# Altium schematic symbol library Transformer.SchLib: 187 symbols
Pins are listed as number, name and electrical type; pins without a type are passive.

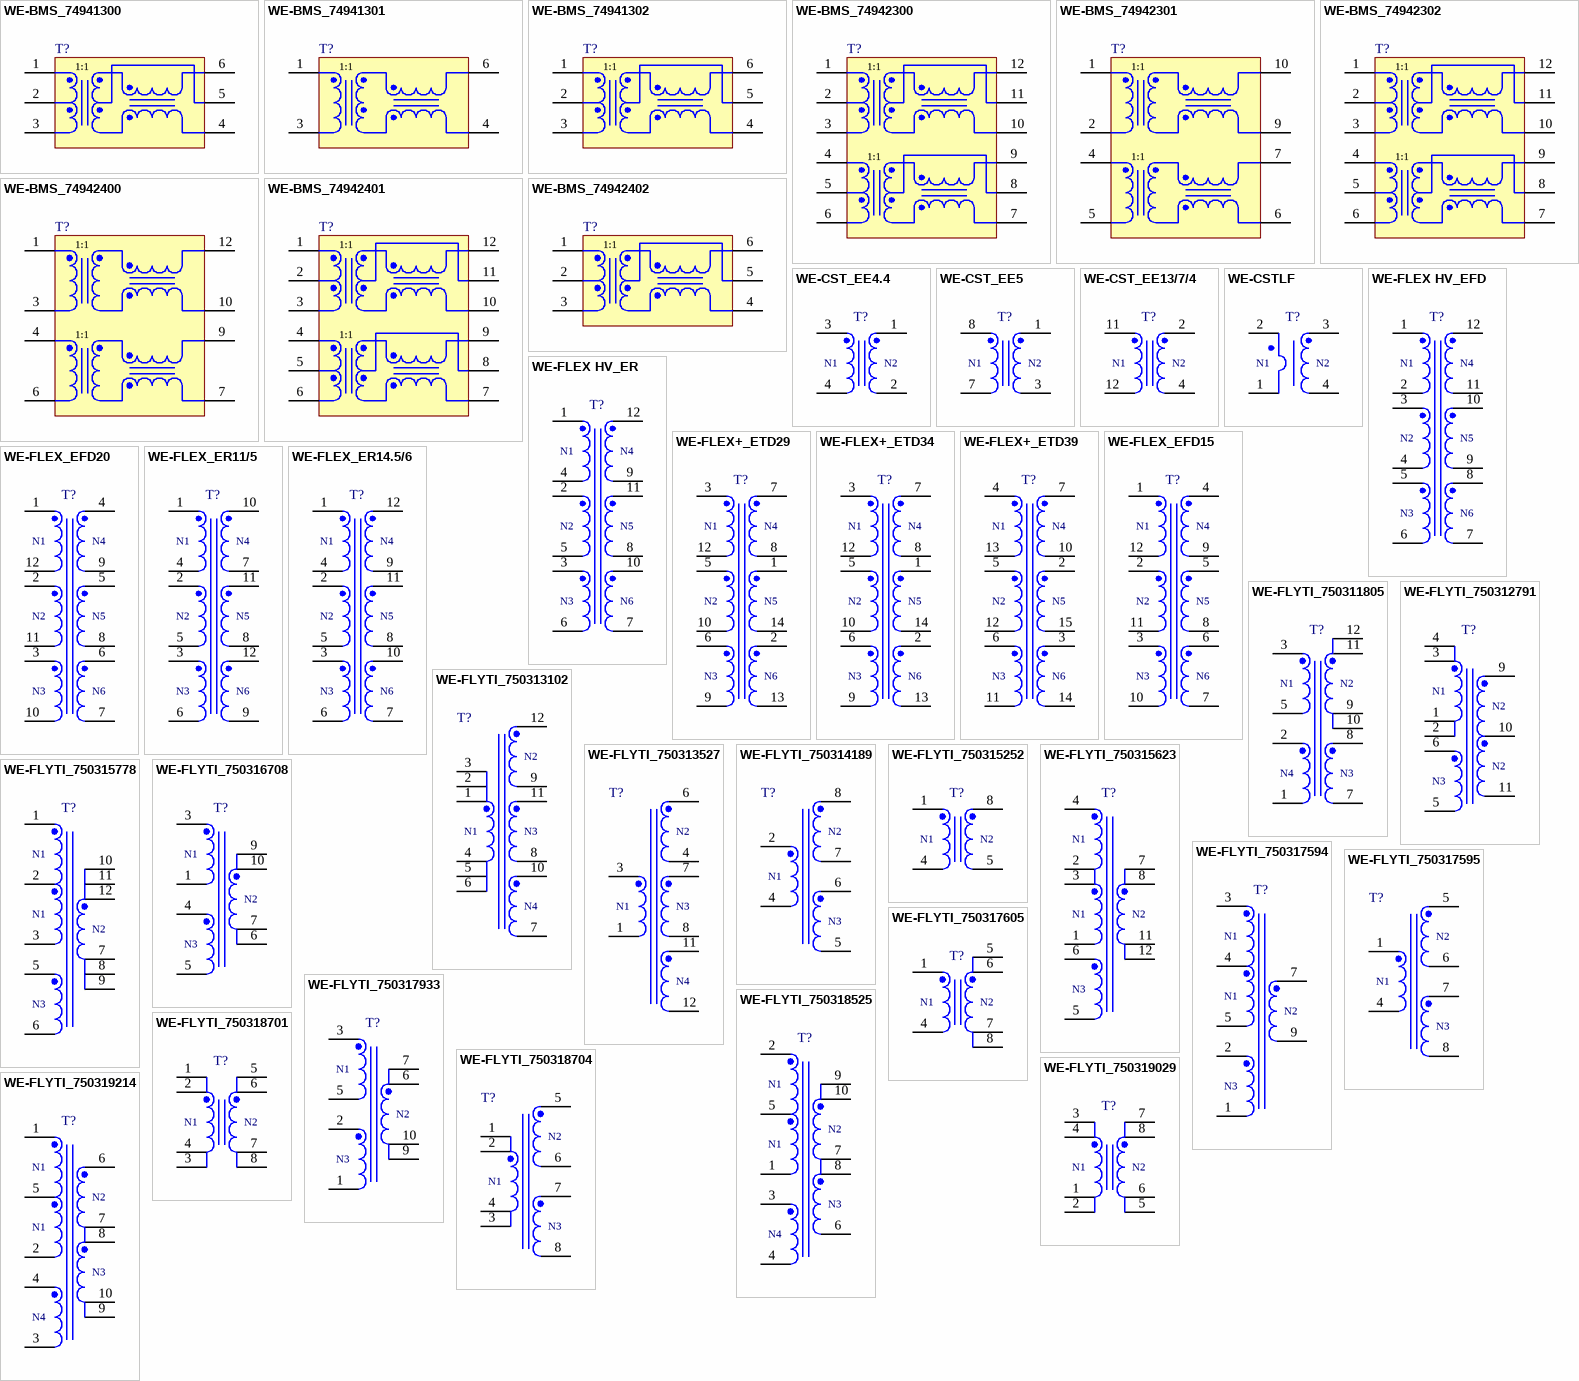
[diagram p0: symbols WE-BMS_74941300 to WE-FLYTI_750319214]

## WE-BMS_74941300
designator T?
pins: 1, 2, 3, 4, 5, 6
text: 1:1

## WE-BMS_74941301
designator T?
pins: 1, 3, 4, 6
text: 1:1

## WE-BMS_74941302
designator T?
pins: 1, 2, 3, 4, 5, 6
text: 1:1

## WE-BMS_74942300
designator T?
pins: 1, 2, 3, 4, 5, 6, 7, 8, 9, 10, 11, 12
text: 1:1

## WE-BMS_74942301
designator T?
pins: 1, 2, 4, 5, 6, 7, 9, 10
text: 1:1

## WE-BMS_74942302
designator T?
pins: 1, 2, 3, 4, 5, 6, 7, 8, 9, 10, 11, 12
text: 1:1

## WE-BMS_74942400
designator T?
pins: 1, 3, 4, 6, 7, 9, 10, 12
text: 1:1

## WE-BMS_74942401
designator T?
pins: 1 RD+, 2 CRD, 3 RD-, 4 TD+, 5 CTD, 6 TD-, 7 TX, 8 CTX, 9 TX+, 10 RX, 11 CRX, 12 RX+
text: 1:1

## WE-BMS_74942402
designator T?
pins: 1, 2, 3, 4, 5, 6
text: 1:1

## WE-CST_EE4.4
designator T?
pins: 1, 2, 3, 4
text: N1; N2

## WE-CST_EE5
designator T?
pins: 1, 3, 7, 8
text: N1; N2

## WE-CST_EE13/7/4
designator T?
pins: 2, 4, 11, 12
text: N1; N2

## WE-CSTLF
designator T?
pins: 1, 2, 3, 4
text: N1; N2

## WE-FLEX HV_EFD
designator T?
pins: 1, 2, 3, 4, 5, 6, 7, 8, 9, 10, 11, 12
text: N1; N4; N2; N5; N3; N6

## WE-FLEX HV_ER
designator T?
pins: 1, 2, 3, 4, 5, 6, 7, 8, 9, 10, 11, 12
text: N1; N4; N2; N5; N3; N6

## WE-FLEX+_ETD29
designator T?
pins: 1, 2, 3, 5, 6, 7, 8, 9, 10, 12, 13, 14
text: N1; N4; N2; N5; N3; N6

## WE-FLEX+_ETD34
designator T?
pins: 1, 2, 3, 5, 6, 7, 8, 9, 10, 12, 13, 14
text: N1; N4; N2; N5; N3; N6

## WE-FLEX+_ETD39
designator T?
pins: 2, 3, 4, 5, 6, 7, 10, 11, 12, 13, 14, 15
text: N1; N4; N2; N5; N3; N6

## WE-FLEX_EFD15
designator T?
pins: 1, 2, 3, 4, 5, 6, 7, 8, 9, 10, 11, 12
text: N1; N4; N2; N5; N3; N6

## WE-FLEX_EFD20
designator T?
pins: 1, 2, 3, 4, 5, 6, 7, 8, 9, 10, 11, 12
text: N1; N4; N2; N5; N3; N6

## WE-FLEX_ER11/5
designator T?
pins: 1, 2, 3, 4, 5, 6, 7, 8, 9, 10, 11, 12
text: N1; N4; N2; N5; N3; N6

## WE-FLEX_ER14.5/6
designator T?
pins: 1, 2, 3, 4, 5, 6, 7, 8, 9, 10, 11, 12
text: N1; N4; N2; N5; N3; N6

## WE-FLYTI_750311805
designator T?
pins: 1, 2, 3, 5, 7, 8, 9, 10, 11, 12
text: N1; N2; N4; N3

## WE-FLYTI_750312791
designator T?
pins: 1, 2, 3, 4, 5, 6, 9, 10, 11
text: N1; N2; N3

## WE-FLYTI_750313102
designator T?
pins: 1, 2, 3, 4, 5, 6, 7, 8, 9, 10, 11, 12
text: N2; N1; N3; N4

## WE-FLYTI_750313527
designator T?
pins: 1, 3, 4, 6, 7, 8, 11, 12
text: N2; N1; N3; N4

## WE-FLYTI_750314189
designator T?
pins: 2, 4, 5, 6, 7, 8
text: N2; N1; N3

## WE-FLYTI_750315252
designator T?
pins: 1, 4, 5, 8
text: N1; N2

## WE-FLYTI_750315623
designator T?
pins: 1, 2, 3, 4, 5, 6, 7, 8, 11, 12
text: N1; N2; N3

## WE-FLYTI_750315778
designator T?
pins: 1, 2, 3, 5, 6, 7, 8, 9, 10, 11, 12
text: N1; N2; N3

## WE-FLYTI_750316708
designator T?
pins: 1, 3, 4, 5, 6, 7, 9, 10
text: N1; N2; N3

## WE-FLYTI_750317594
designator T?
pins: 1, 2, 3, 4, 5, 7, 9
text: N1; N2; N3

## WE-FLYTI_750317595
designator T?
pins: 1, 4, 5, 6, 7, 8
text: N2; N1; N3

## WE-FLYTI_750317605
designator T?
pins: 1, 4, 5, 6, 7, 8
text: N1; N2

## WE-FLYTI_750317933
designator T?
pins: 1, 2, 3, 5, 6, 7, 9, 10
text: N1; N2; N3

## WE-FLYTI_750318525
designator T?
pins: 1, 2, 3, 4, 5, 6, 7, 8, 9, 10
text: N1; N2; N3; N4

## WE-FLYTI_750318701
designator T?
pins: 1, 2, 3, 4, 5, 6, 7, 8
text: N1; N2

## WE-FLYTI_750318704
designator T?
pins: 1, 2, 3, 4, 5, 6, 7, 8
text: N2; N1; N3

## WE-FLYTI_750319029
designator T?
pins: 1, 2, 3, 4, 5, 6, 7, 8
text: N1; N2

## WE-FLYTI_750319214
designator T?
pins: 1, 2, 3, 4, 5, 6, 7, 8, 9, 10
text: N1; N2; N3; N4

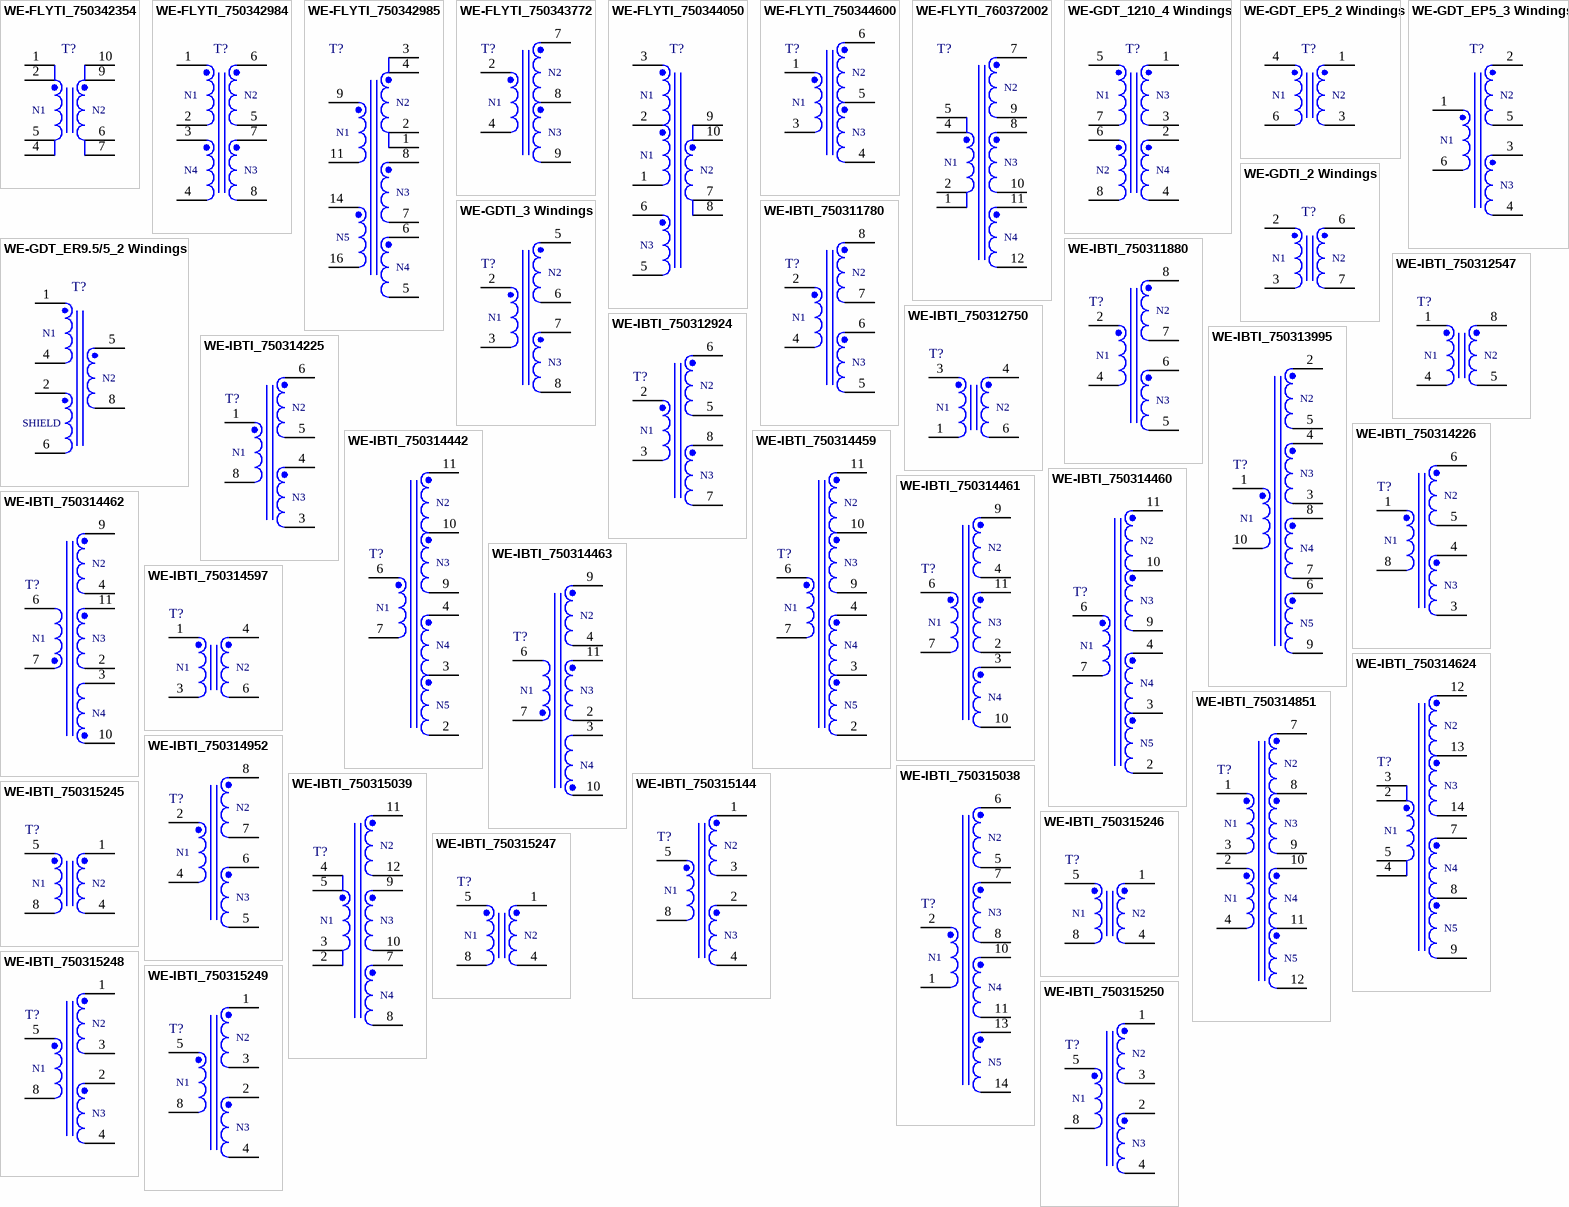
[diagram p1: symbols WE-FLYTI_750342354 to WE-IBTI_750315250]

## WE-FLYTI_750342354
designator T?
pins: 1, 2, 4, 5, 6, 7, 9, 10
text: N1; N2

## WE-FLYTI_750342984
designator T?
pins: 1, 2, 3, 4, 5, 6, 7, 8
text: N1; N2; N4; N3

## WE-FLYTI_750342985
designator T?
pins: 1, 2, 3, 4, 5, 6, 7, 8, 9, 11, 14, 16
text: N2; N1; N3; N5; N4

## WE-FLYTI_750343772
designator T?
pins: 2, 4, 7, 8, 9
text: N2; N1; N3

## WE-FLYTI_750344050
designator T?
pins: 1, 2, 3, 5, 6, 7, 8, 9, 10
text: N1; N2; N3

## WE-FLYTI_750344600
designator T?
pins: 1, 3, 4, 5, 6
text: N2; N1; N3

## WE-FLYTI_760372002
designator T?
pins: 1, 2, 4, 5, 7, 8, 9, 10, 11, 12
text: N2; N1; N3; N4

## WE-GDT_1210_4 Windings
designator T?
pins: 1, 2, 3, 4, 5, 6, 7, 8
text: N1; N3; N2; N4

## WE-GDT_EP5_2 Windings
designator T?
pins: 1, 3, 4, 6
text: N1; N2

## WE-GDT_EP5_3 Windings
designator T?
pins: 1, 2, 3, 4, 5, 6
text: N2; N1; N3

## WE-GDT_ER9.5/5_2 Windings
designator T?
pins: 1, 2, 4, 5, 6, 8
text: N1; N2; SHIELD

## WE-GDTI_2 Windings
designator T?
pins: 2, 3, 6, 7
text: N1; N2

## WE-GDTI_3 Windings
designator T?
pins: 2, 3, 5, 6, 7, 8
text: N2; N1; N3

## WE-IBTI_750311780
designator T?
pins: 2, 4, 5, 6, 7, 8
text: N2; N1; N3

## WE-IBTI_750311880
designator T?
pins: 2, 4, 5, 6, 7, 8
text: N2; N1; N3

## WE-IBTI_750312547
designator T?
pins: 1, 4, 5, 8
text: N1; N2

## WE-IBTI_750312750
designator T?
pins: 1, 3, 4, 6
text: N1; N2

## WE-IBTI_750312924
designator T?
pins: 2, 3, 5, 6, 7, 8
text: N2; N1; N3

## WE-IBTI_750313995
designator T?
pins: 1, 2, 3, 4, 5, 6, 7, 8, 9, 10
text: N2; N3; N1; N4; N5

## WE-IBTI_750314225
designator T?
pins: 1, 3, 4, 5, 6, 8
text: N2; N1; N3

## WE-IBTI_750314226
designator T?
pins: 1, 3, 4, 5, 6, 8
text: N2; N1; N3

## WE-IBTI_750314442
designator T?
pins: 2, 3, 4, 6, 7, 9, 10, 11
text: N2; N3; N1; N4; N5

## WE-IBTI_750314459
designator T?
pins: 2, 3, 4, 6, 7, 9, 10, 11
text: N2; N3; N1; N4; N5

## WE-IBTI_750314460
designator T?
pins: 2, 3, 4, 6, 7, 9, 10, 11
text: N2; N3; N1; N4; N5

## WE-IBTI_750314461
designator T?
pins: 2, 3, 4, 6, 7, 9, 10, 11
text: N2; N1; N3; N4

## WE-IBTI_750314462
designator T?
pins: 2, 3, 4, 6, 7, 9, 10, 11
text: N2; N1; N3; N4

## WE-IBTI_750314463
designator T?
pins: 2, 3, 4, 6, 7, 9, 10, 11
text: N2; N1; N3; N4

## WE-IBTI_750314597
designator T?
pins: 1, 3, 4, 6
text: N1; N2

## WE-IBTI_750314624
designator T?
pins: 2, 3, 4, 5, 7, 8, 9, 12, 13, 14
text: N2; N3; N1; N4; N5

## WE-IBTI_750314851
designator T?
pins: 1, 2, 3, 4, 7, 8, 9, 10, 11, 12
text: N2; N1; N3; N4; N5

## WE-IBTI_750314952
designator T?
pins: 2, 4, 5, 6, 7, 8
text: N2; N1; N3

## WE-IBTI_750315038
designator T?
pins: 1, 2, 5, 6, 7, 8, 10, 11, 13, 14
text: N2; N3; N1; N4; N5

## WE-IBTI_750315039
designator T?
pins: 2, 3, 4, 5, 7, 8, 9, 10, 11, 12
text: N2; N1; N3; N4

## WE-IBTI_750315144
designator T?
pins: 1, 2, 3, 4, 5, 8
text: N2; N1; N3

## WE-IBTI_750315245
designator T?
pins: 1, 4, 5, 8
text: N1; N2

## WE-IBTI_750315246
designator T?
pins: 1, 4, 5, 8
text: N1; N2

## WE-IBTI_750315247
designator T?
pins: 1, 4, 5, 8
text: N1; N2

## WE-IBTI_750315248
designator T?
pins: 1, 2, 3, 4, 5, 8
text: N2; N1; N3

## WE-IBTI_750315249
designator T?
pins: 1, 2, 3, 4, 5, 8
text: N2; N1; N3

## WE-IBTI_750315250
designator T?
pins: 1, 2, 3, 4, 5, 8
text: N2; N1; N3

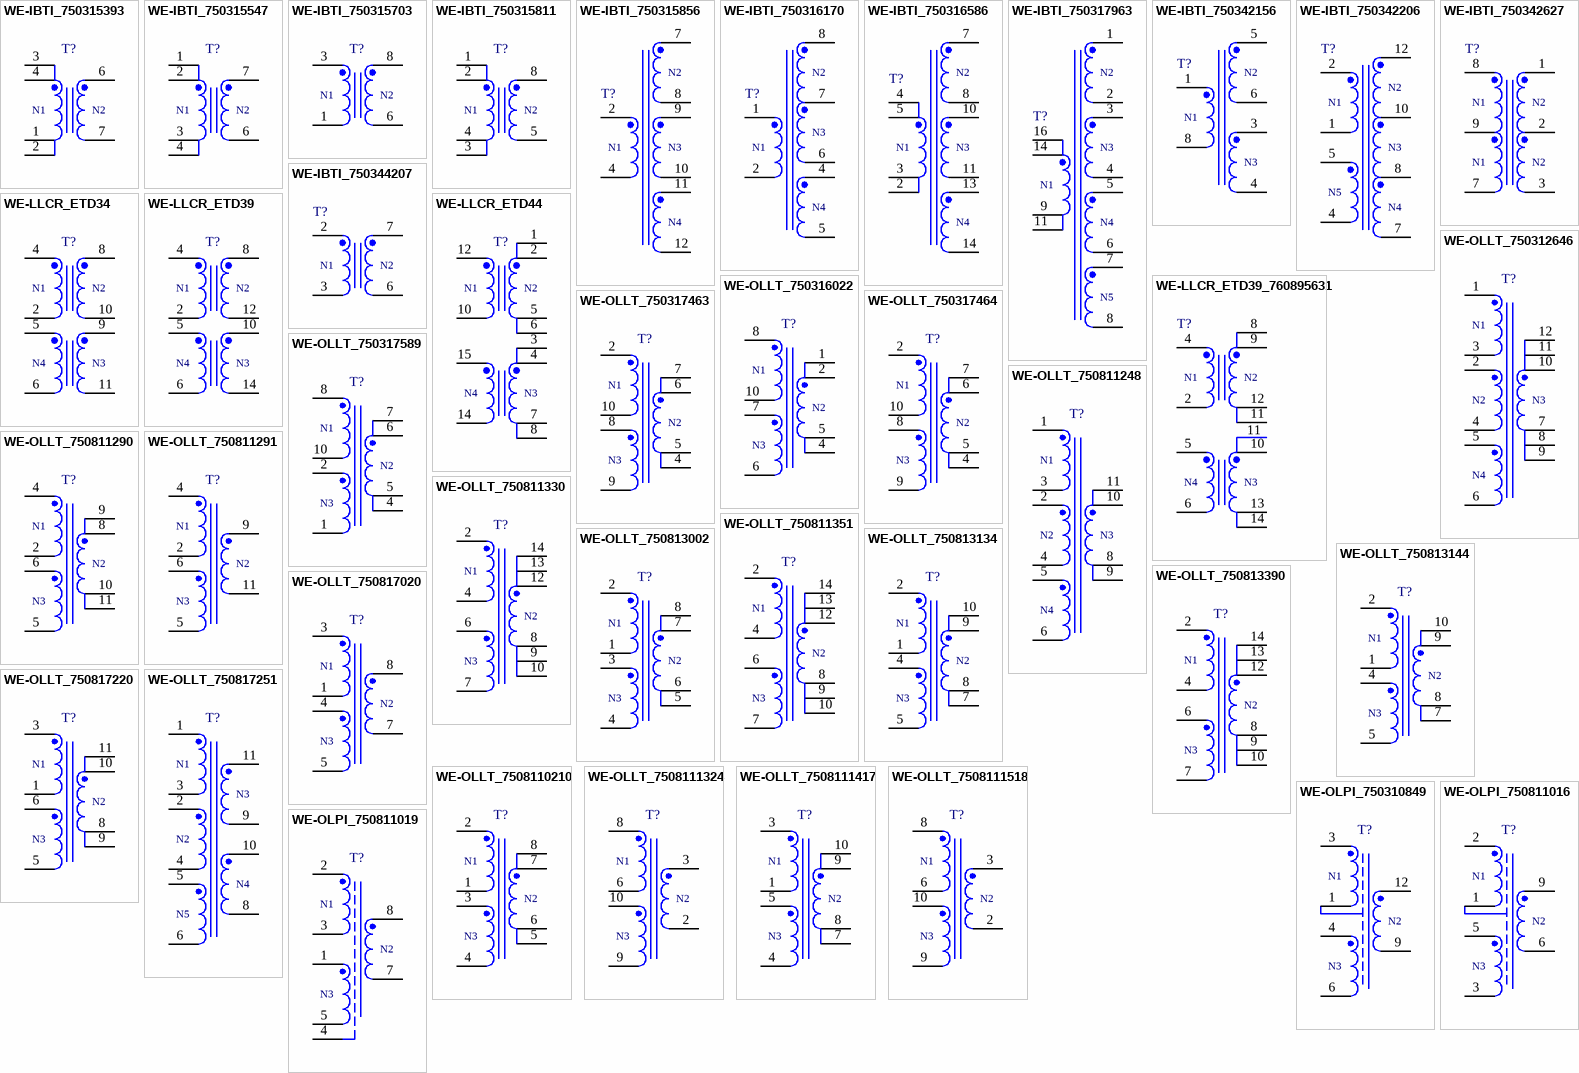
[diagram p2: symbols WE-IBTI_750315393 to WE-OLPI_750811019]

## WE-IBTI_750315393
designator T?
pins: 1, 2, 3, 4, 6, 7
text: N1; N2

## WE-IBTI_750315547
designator T?
pins: 1, 2, 3, 4, 6, 7
text: N1; N2

## WE-IBTI_750315703
designator T?
pins: 1, 3, 6, 8
text: N1; N2

## WE-IBTI_750315811
designator T?
pins: 1, 2, 3, 4, 5, 8
text: N1; N2

## WE-IBTI_750315856
designator T?
pins: 2, 4, 7, 8, 9, 10, 11, 12
text: N2; N1; N3; N4

## WE-IBTI_750316170
designator T?
pins: 1, 2, 4, 5, 6, 7, 8
text: N2; N3; N1; N4

## WE-IBTI_750316586
designator T?
pins: 2, 3, 4, 5, 7, 8, 10, 11, 13, 14
text: N2; N1; N3; N4

## WE-IBTI_750317963
designator T?
pins: 1, 2, 3, 4, 5, 6, 7, 8, 9, 11, 14, 16
text: N2; N3; N1; N4; N5

## WE-IBTI_750342156
designator T?
pins: 1, 3, 4, 5, 6, 8
text: N2; N1; N3

## WE-IBTI_750342206
designator T?
pins: 1, 2, 4, 5, 7, 8, 10, 12
text: N2; N1; N3; N5; N4

## WE-IBTI_750342627
designator T?
pins: 1, 2, 3, 7, 8, 9
text: N1; N2

## WE-IBTI_750344207
designator T?
pins: 2, 3, 6, 7
text: N1; N2

## WE-LLCR_ETD34
designator T?
pins: 2, 4, 5, 6, 8, 9, 10, 11
text: N1; N2; N4; N3

## WE-LLCR_ETD39
designator T?
pins: 2, 4, 5, 6, 8, 10, 12, 14
text: N1; N2; N4; N3

## WE-LLCR_ETD39_760895631
designator T?
pins: 2, 4, 5, 6, 8, 9, 10, 11, 12, 13, 14
text: N1; N2; N4; N3

## WE-LLCR_ETD44
designator T?
pins: 1, 2, 3, 4, 5, 6, 7, 8, 10, 12, 14, 15
text: N1; N2; N4; N3

## WE-OLLT_750312646
designator T?
pins: 1, 2, 3, 4, 5, 6, 7, 8, 9, 10, 11, 12
text: N1; N2; N3; N4

## WE-OLLT_750316022
designator T?
pins: 1, 2, 4, 5, 6, 7, 8, 10
text: N1; N2; N3

## WE-OLLT_750317463
designator T?
pins: 2, 4, 5, 6, 7, 8, 9, 10
text: N1; N2; N3

## WE-OLLT_750317464
designator T?
pins: 2, 4, 5, 6, 7, 8, 9, 10
text: N1; N2; N3

## WE-OLLT_750317589
designator T?
pins: 1, 2, 4, 5, 6, 7, 8, 10
text: N1; N2; N3

## WE-OLLT_750811248
designator T?
pins: 1, 2, 3, 4, 5, 6, 8, 9, 10, 11
text: N1; N2; N3; N4

## WE-OLLT_750811290
designator T?
pins: 2, 4, 5, 6, 8, 9, 10, 11
text: N1; N2; N3

## WE-OLLT_750811291
designator T?
pins: 2, 4, 5, 6, 9, 11
text: N1; N2; N3

## WE-OLLT_750811330
designator T?
pins: 2, 4, 6, 7, 8, 9, 10, 12, 13, 14
text: N1; N2; N3

## WE-OLLT_750811351
designator T?
pins: 2, 4, 6, 7, 8, 9, 10, 12, 13, 14
text: N1; N2; N3

## WE-OLLT_750813002
designator T?
pins: 1, 2, 3, 4, 5, 6, 7, 8
text: N1; N2; N3

## WE-OLLT_750813134
designator T?
pins: 1, 2, 4, 5, 7, 8, 9, 10
text: N1; N2; N3

## WE-OLLT_750813144
designator T?
pins: 1, 2, 4, 5, 7, 8, 9, 10
text: N1; N2; N3

## WE-OLLT_750813390
designator T?
pins: 2, 4, 6, 7, 8, 9, 10, 12, 13, 14
text: N1; N2; N3

## WE-OLLT_750817020
designator T?
pins: 1, 3, 4, 5, 7, 8
text: N1; N2; N3

## WE-OLLT_750817220
designator T?
pins: 1, 3, 5, 6, 8, 9, 10, 11
text: N1; N2; N3

## WE-OLLT_750817251
designator T?
pins: 1, 2, 3, 4, 5, 6, 8, 9, 10, 11
text: N1; N3; N2; N4; N5

## WE-OLLT_7508110210
designator T?
pins: 1, 2, 3, 4, 5, 6, 7, 8
text: N1; N2; N3

## WE-OLLT_7508111324
designator T?
pins: 2, 3, 6, 8, 9, 10
text: N1; N2; N3

## WE-OLLT_7508111417
designator T?
pins: 1, 3, 4, 5, 7, 8, 9, 10
text: N1; N2; N3

## WE-OLLT_7508111518
designator T?
pins: 2, 3, 6, 8, 9, 10
text: N1; N2; N3

## WE-OLPI_750310849
designator T?
pins: 1, 3, 4, 6, 9, 12
text: N1; N2; N3

## WE-OLPI_750811016
designator T?
pins: 1, 2, 3, 5, 6, 9
text: N1; N2; N3

## WE-OLPI_750811019
designator T?
pins: 1, 2, 3, 4, 5, 7, 8
text: N1; N2; N3

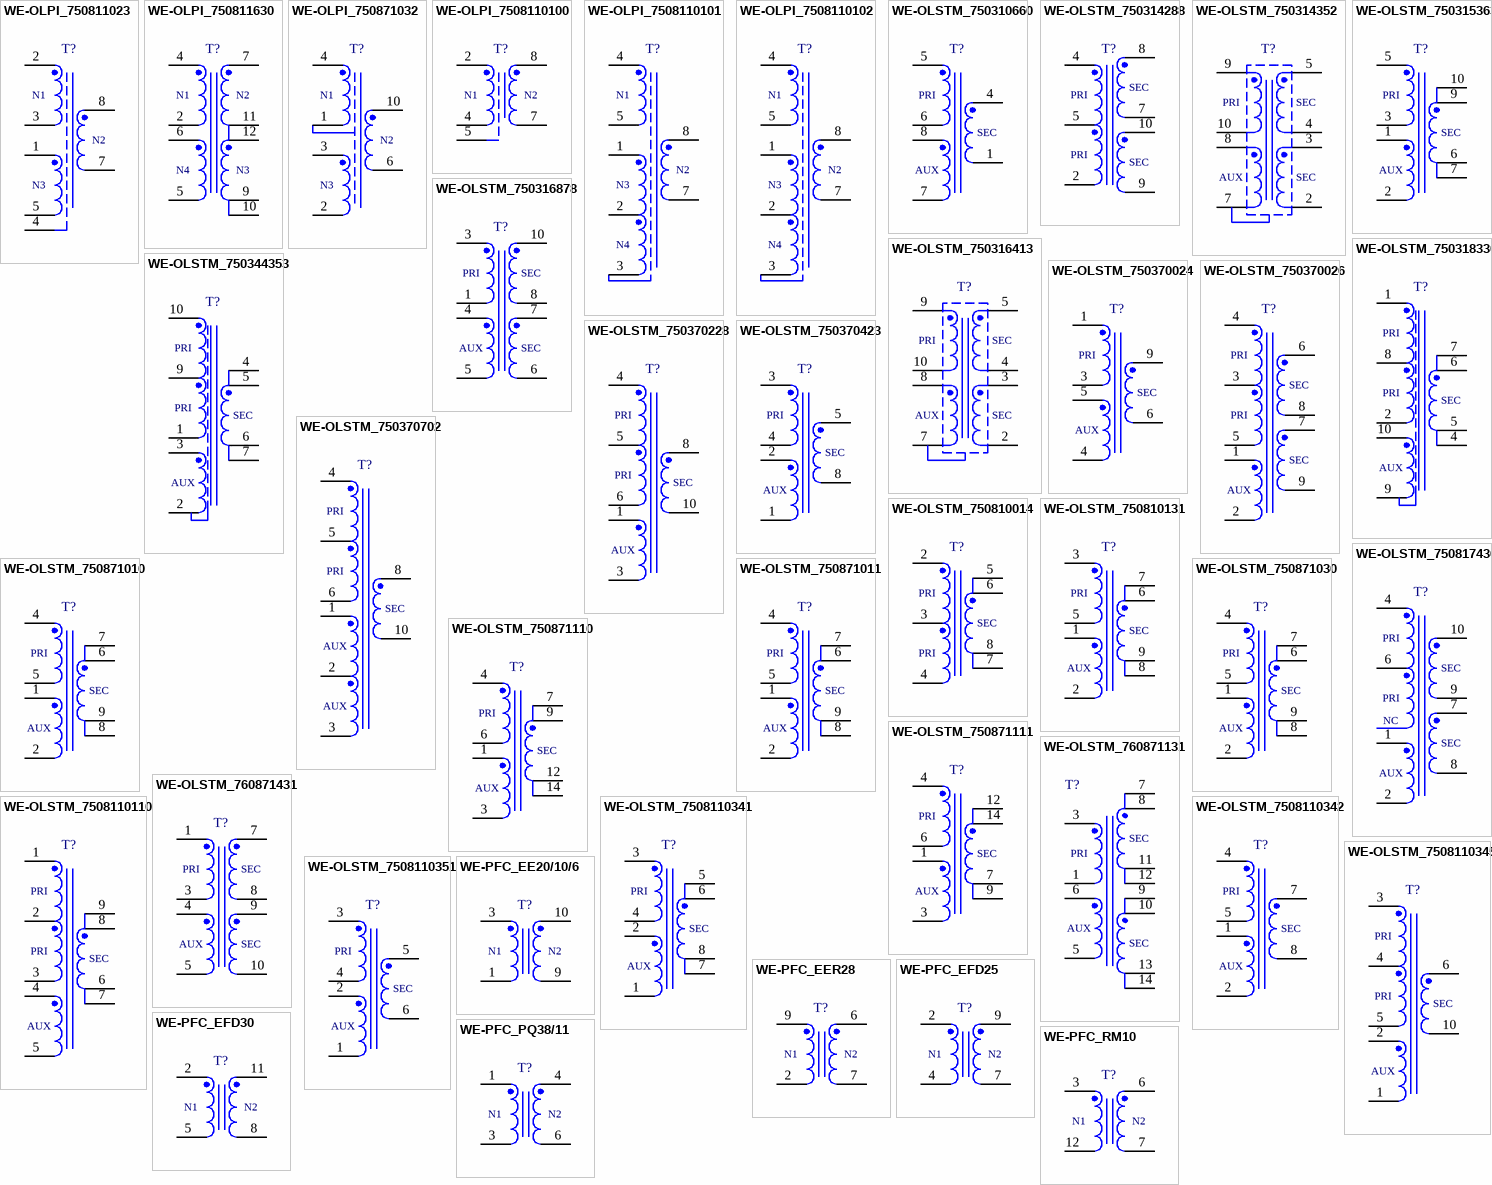
[diagram p3: symbols WE-OLPI_750811023 to WE-PFC_RM10]

## WE-OLPI_750811023
designator T?
pins: 1, 2, 3, 4, 5, 7, 8
text: N1; N2; N3

## WE-OLPI_750811630
designator T?
pins: 2, 4, 5, 6, 7, 9, 10, 11, 12
text: N1; N2; N4; N3

## WE-OLPI_750871032
designator T?
pins: 1, 2, 3, 4, 6, 10
text: N1; N2; N3

## WE-OLPI_7508110100
designator T?
pins: 2, 4, 5, 7, 8
text: N1; N2

## WE-OLPI_7508110101
designator T?
pins: 1, 2, 3, 4, 5, 7, 8
text: N1; N2; N3; N4

## WE-OLPI_7508110102
designator T?
pins: 1, 2, 3, 4, 5, 7, 8
text: N1; N2; N3; N4

## WE-OLSTM_750310660
designator T?
pins: 1, 4, 5, 6, 7, 8
text: PRI; SEC; AUX

## WE-OLSTM_750314288
designator T?
pins: 2, 4, 5, 7, 8, 9, 10
text: SEC; PRI

## WE-OLSTM_750314352
designator T?
pins: 2, 3, 4, 5, 7, 8, 9, 10
text: PRI; SEC; AUX

## WE-OLSTM_750315363
designator T?
pins: 1, 2, 3, 5, 6, 7, 9, 10
text: PRI; SEC; AUX

## WE-OLSTM_750316413
designator T?
pins: 2, 3, 4, 5, 7, 8, 9, 10
text: PRI; SEC; AUX

## WE-OLSTM_750316878
designator T?
pins: 1, 3, 4, 5, 6, 7, 8, 10
text: PRI; SEC; AUX

## WE-OLSTM_750318330
designator T?
pins: 1, 2, 4, 5, 6, 7, 8, 9, 10
text: PRI; SEC; AUX

## WE-OLSTM_750344353
designator T?
pins: 1, 2, 3, 4, 5, 6, 7, 9, 10
text: PRI; SEC; AUX

## WE-OLSTM_750370024
designator T?
pins: 1, 3, 4, 5, 6, 9
text: PRI; SEC; AUX

## WE-OLSTM_750370026
designator T?
pins: 1, 2, 3, 4, 5, 6, 7, 8, 9
text: PRI; SEC; AUX

## WE-OLSTM_750370228
designator T?
pins: 1, 3, 4, 5, 6, 8, 10
text: PRI; SEC; AUX

## WE-OLSTM_750370423
designator T?
pins: 1, 2, 3, 4, 5, 8
text: PRI; SEC; AUX

## WE-OLSTM_750370702
designator T?
pins: 1, 2, 3, 4, 5, 6, 8, 10
text: PRI; SEC; AUX

## WE-OLSTM_750810014
designator T?
pins: 2, 3, 4, 5, 6, 7, 8
text: PRI; SEC

## WE-OLSTM_750810131
designator T?
pins: 1, 2, 3, 5, 6, 7, 8, 9
text: PRI; SEC; AUX

## WE-OLSTM_750817436
designator T?
pins: 1, 2, 4, 6, 7, 8, 9, 10
text: PRI; SEC; NC; AUX

## WE-OLSTM_750871010
designator T?
pins: 1, 2, 4, 5, 6, 7, 8, 9
text: PRI; SEC; AUX

## WE-OLSTM_750871011
designator T?
pins: 1, 2, 4, 5, 6, 7, 8, 9
text: PRI; SEC; AUX

## WE-OLSTM_750871030
designator T?
pins: 1, 2, 4, 5, 6, 7, 8, 9
text: PRI; SEC; AUX

## WE-OLSTM_750871110
designator T?
pins: 1, 3, 4, 6, 7, 9, 12, 14
text: PRI; SEC; AUX

## WE-OLSTM_750871111
designator T?
pins: 1, 3, 4, 6, 7, 9, 12, 14
text: PRI; SEC; AUX

## WE-OLSTM_760871131
designator T?
pins: 1, 3, 5, 6, 7, 8, 9, 10, 11, 12, 13, 14
text: SEC; PRI; AUX

## WE-OLSTM_760871431
designator T?
pins: 1, 3, 4, 5, 7, 8, 9, 10
text: PRI; SEC; AUX

## WE-OLSTM_7508110110
designator T?
pins: 1, 2, 3, 4, 5, 6, 7, 8, 9
text: PRI; SEC; AUX

## WE-OLSTM_7508110341
designator T?
pins: 1, 2, 3, 4, 5, 6, 7, 8
text: PRI; SEC; AUX

## WE-OLSTM_7508110342
designator T?
pins: 1, 2, 4, 5, 7, 8
text: PRI; SEC; AUX

## WE-OLSTM_7508110345
designator T?
pins: 1, 2, 3, 4, 5, 6, 10
text: PRI; SEC; AUX

## WE-OLSTM_7508110351
designator T?
pins: 1, 2, 3, 4, 5, 6
text: PRI; SEC; AUX

## WE-PFC_EE20/10/6
designator T?
pins: 1, 3, 9, 10
text: N1; N2

## WE-PFC_EER28
designator T?
pins: 2, 6, 7, 9
text: N1; N2

## WE-PFC_EFD25
designator T?
pins: 2, 4, 7, 9
text: N1; N2

## WE-PFC_EFD30
designator T?
pins: 2, 5, 8, 11
text: N1; N2

## WE-PFC_PQ38/11
designator T?
pins: 1, 3, 4, 6
text: N1; N2

## WE-PFC_RM10
designator T?
pins: 3, 6, 7, 12
text: N1; N2

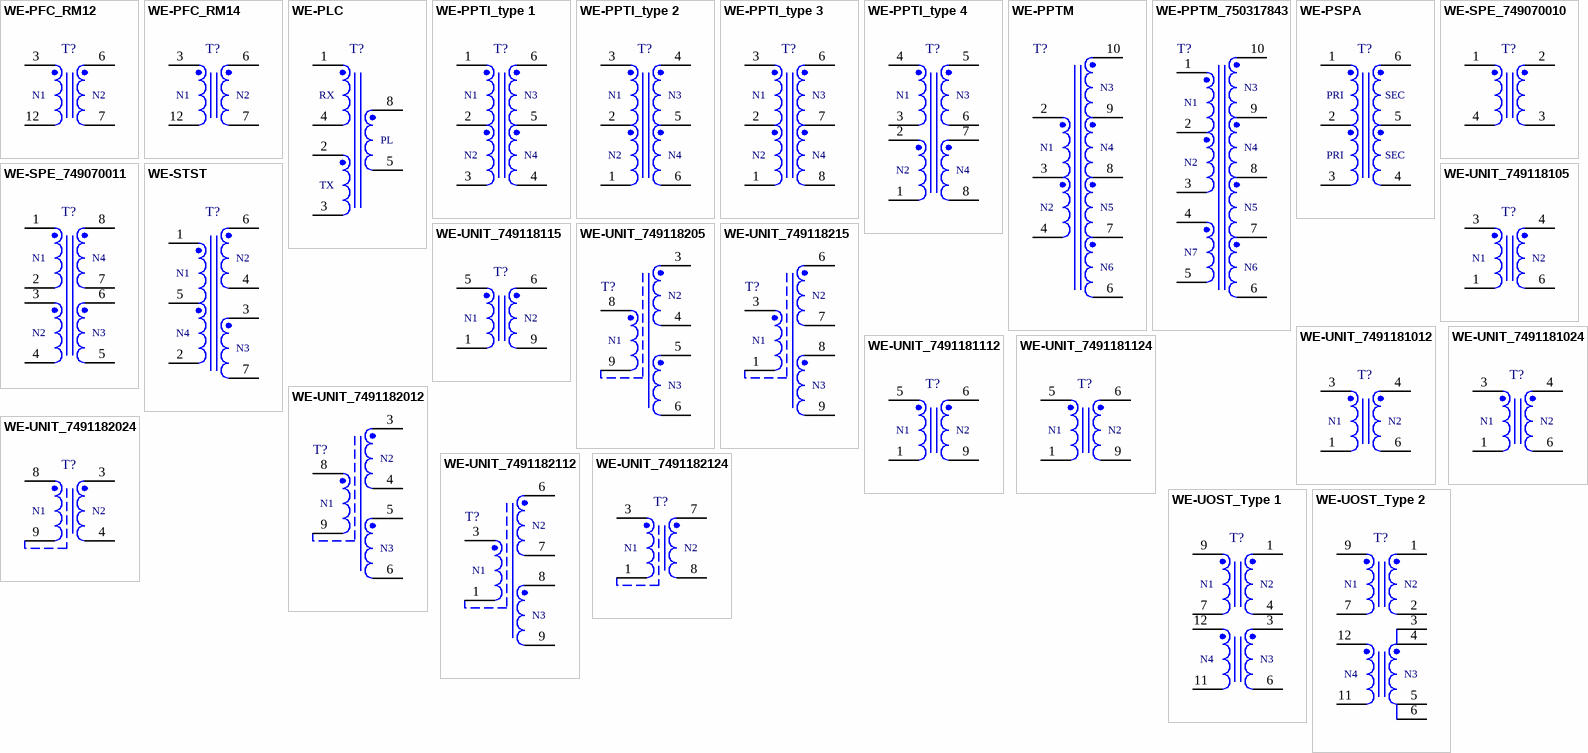
[diagram p4: symbols WE-PFC_RM12 to WE-UOST_Type 2]

## WE-PFC_RM12
designator T?
pins: 3, 6, 7, 12
text: N1; N2

## WE-PFC_RM14
designator T?
pins: 3, 6, 7, 12
text: N1; N2

## WE-PLC
designator T?
pins: 1, 2, 3, 4, 5, 8
text: RX; PL; TX

## WE-PPTI_type 1
designator T?
pins: 1, 2, 3, 4, 5, 6
text: N1; N3; N2; N4

## WE-PPTI_type 2
designator T?
pins: 1, 2, 3, 4, 5, 6
text: N1; N3; N2; N4

## WE-PPTI_type 3
designator T?
pins: 1, 2, 3, 6, 7, 8
text: N1; N3; N2; N4

## WE-PPTI_type 4
designator T?
pins: 1, 2, 3, 4, 5, 6, 7, 8
text: N1; N3; N2; N4

## WE-PPTM
designator T?
pins: 2, 3, 4, 6, 7, 8, 9, 10
text: N3; N1; N4; N2; N5; N6

## WE-PPTM_750317843
designator T?
pins: 1, 2, 3, 4, 5, 6, 7, 8, 9, 10
text: N3; N1; N4; N2; N5; N7; N6

## WE-PSPA
designator T?
pins: 1, 2, 3, 4, 5, 6
text: PRI; SEC

## WE-SPE_749070010
designator T?
pins: 1, 2, 3, 4

## WE-SPE_749070011
designator T?
pins: 1, 2, 3, 4, 5, 6, 7, 8
text: N1; N4; N2; N3

## WE-STST
designator T?
pins: 1, 2, 3, 4, 5, 6, 7
text: N2; N1; N4; N3

## WE-UNIT_749118105
designator T?
pins: 1, 3, 4, 6
text: N1; N2

## WE-UNIT_749118115
designator T?
pins: 1, 5, 6, 9
text: N1; N2

## WE-UNIT_749118205
designator T?
pins: 3, 4, 5, 6, 8, 9
text: N2; N1; N3

## WE-UNIT_749118215
designator T?
pins: 1, 3, 6, 7, 8, 9
text: N2; N1; N3

## WE-UNIT_7491181012
designator T?
pins: 1, 3, 4, 6
text: N1; N2

## WE-UNIT_7491181024
designator T?
pins: 1, 3, 4, 6
text: N1; N2

## WE-UNIT_7491181112
designator T?
pins: 1, 5, 6, 9
text: N1; N2

## WE-UNIT_7491181124
designator T?
pins: 1, 5, 6, 9
text: N1; N2

## WE-UNIT_7491182012
designator T?
pins: 3, 4, 5, 6, 8, 9
text: N2; N1; N3

## WE-UNIT_7491182024
designator T?
pins: 3, 4, 8, 9
text: N1; N2

## WE-UNIT_7491182112
designator T?
pins: 1, 3, 6, 7, 8, 9
text: N2; N1; N3

## WE-UNIT_7491182124
designator T?
pins: 1, 3, 7, 8
text: N1; N2

## WE-UOST_Type 1
designator T?
pins: 1, 3, 4, 6, 7, 9, 11, 12
text: N1; N2; N4; N3

## WE-UOST_Type 2
designator T?
pins: 1, 2, 3, 4, 5, 6, 7, 9, 11, 12
text: N1; N2; N4; N3